# EAGLE library part TPD12S016PWR (library Signetics)
Texas Instruments,TPD12S016PWR,IC,HDMI TPD12S016PWR, HDMI Interface 12-channel HDMI 4.5 Source: Datasheet <http://www.ti.com/lit/ds/symlink/tpd12s016.pdf>
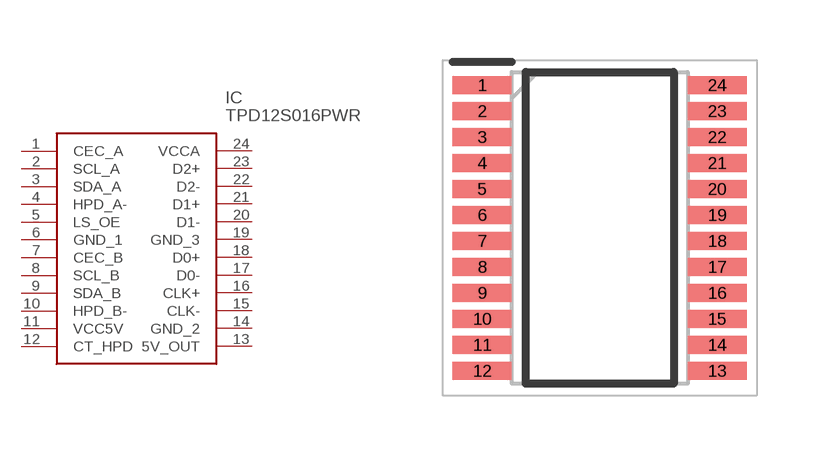
[diagram p22: symbol with the pads of SOP65P640X120-24N; footprint SOP65P640X120-24N]

Designator prefix IC

## TPD12S016PWR (DESCRIPTION: Texas Instruments,TPD12S016PWR,IC,HDMI TPD12S016PWR, HDMI Interface 12-channel HDMI 4.5; HEIGHT: 1.2mm; MANUFACTURER_NAME: Texas Instruments; MANUFACTURER_PART_NUMBER: TPD12S016PWR; MOUSER_PART_NUMBER: 595-TPD12S016PWR; MOUSER_PRICE-STOCK: https://www.mouser.co.uk/ProductDetail/Texas-Instruments/TPD12S016PWR?qs=Brs2XCuyt3duqIFAdfG0Pg%3D%3D)  [SOP65P640X120-24N]
1  CEC_A
2  SCL_A
3  SDA_A
4  HPD_A-
5  LS_OE
6  GND_1  pwr
7  CEC_B
8  SCL_B
9  SDA_B
10  HPD_B-
11  VCC5V  pwr
12  CT_HPD
13  5V_OUT  out
14  GND_2  pwr
15  CLK-  in
16  CLK+  in
17  D0-
18  D0+
19  GND_3  pwr
20  D1-
21  D1+
22  D2-
23  D2+
24  VCCA  pwr

## Footprint SOP65P640X120-24N (pad centres in mm)
PW (R-PDSO-G24)
smd 1.475 x 0.45: 1 -2.938,3.575; 2 -2.938,2.925; 3 -2.938,2.275; 4 -2.938,1.625; 5 -2.938,0.975; 6 -2.938,0.325; 7 -2.938,-0.325; 8 -2.938,-0.975; 9 -2.938,-1.625; 10 -2.938,-2.275; 11 -2.938,-2.925; 12 -2.938,-3.575; 13 2.938,-3.575; 14 2.938,-2.925; 15 2.938,-2.275; 16 2.938,-1.625; 17 2.938,-0.975; 18 2.938,-0.325; 19 2.938,0.325; 20 2.938,0.975; 21 2.938,1.625; 22 2.938,2.275; 23 2.938,2.925; 24 2.938,3.575